# Altium footprint library Kondensator_DIP.PcbLib: 222 footprints (part 11 of 14)
Each footprint in its own frame and in the unit in brackets; x right, y up, seen from the top. Pads: shape width x height; smd on the part's side, far side on the other; paste and mask are expansions set on the pad; w line width, h text height; cw(c..) or ccw(c..) is an arc to the next point about the centre after c.
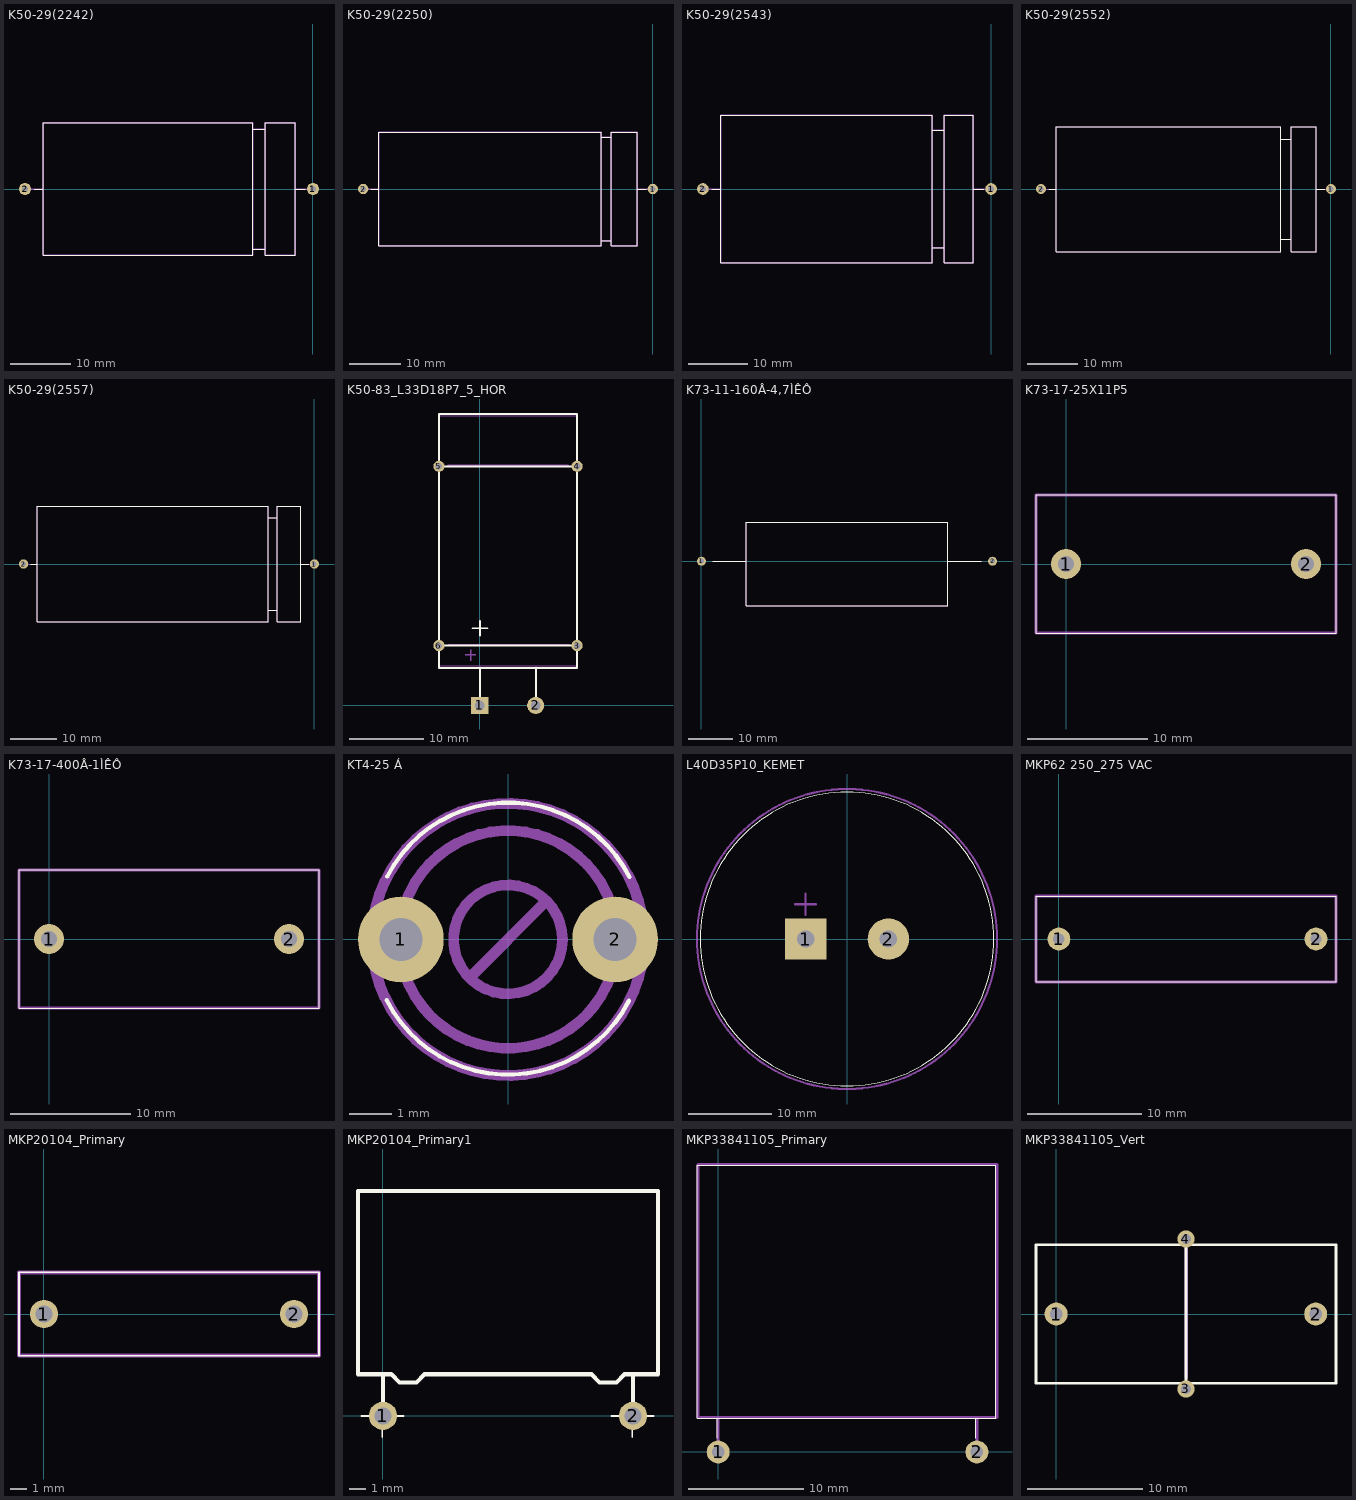
[diagram p10: the footprints below, top view; thin cyan lines are the x and y axes]

## K50-29(2242) [mm]
pads (2):
  round 2 hole 1: 1(0,0) 2(-48,0)
Top Overlay:
  lines w0.1: -46.5,0 -45,0 ; -10,-10 -8,-10 ; -10,10 -8,10 ; -3,0 -1.25,0 ; -45,-11 -10,-11 -10,11 -45,11 -45,-11 ; -8,-11 -3,-11 -3,11 -8,11 -8,-11
Mechanical 1:
  lines w0.25: -48,0 -45,0 ; -10,-10 -8,-10 ; -10,10 -8,10 ; 0,0 -3,0 ; -45,0 -45,11 -10,11 -10,-11 -45,-11 -45,0 ; -3,0 -3,11 -8,11 -8,-11 -3,-11 -3,0
  text "+" at -5.5,-0.75 h0.94

## K50-29(2250) [mm]
pads (2):
  round 2 hole 1: 1(0,0) 2(-56,0)
Top Overlay:
  lines w0.1: -54.5,0 -53,0 ; -10,-10 -8,-10 ; -10,10 -8,10 ; -3,0 -1.25,0 ; -53,-11 -10,-11 -10,11 -53,11 -53,-11 ; -8,-11 -3,-11 -3,11 -8,11 -8,-11
Mechanical 1:
  lines w0.25: -56,0 -53,0 ; -10,-10 -8,-10 ; -10,10 -8,10 ; 0,0 -3,0 ; -53,0 -53,11 -10,11 -10,-11 -53,-11 -53,0 ; -3,0 -3,11 -8,11 -8,-11 -3,-11 -3,0
  text "+" at -5.5,-0.75 h0.94

## K50-29(2543) [mm]
pads (2):
  round 2 hole 1: 1(0,0) 2(-49,0)
Top Overlay:
  lines w0.1: -47.5,0 -46,0 ; -10,-10 -8,-10 ; -10,10 -8,10 ; -3,0 -1.25,0 ; -46,-12.5 -10,-12.5 -10,12.5 -46,12.5 -46,-12.5 ; -8,-12.5 -8,12.5 -3,12.5 -3,-12.5 -8,-12.5
Mechanical 1:
  lines w0.25: -49,0 -46,0 ; -10,-10 -8,-10 ; -10,10 -8,10 ; 0,0 -3,0 ; -46,0 -46,12.5 -10,12.5 -10,-12.5 -46,-12.5 -46,0 ; -3,0 -3,12.5 -8,12.5 -8,-12.5 -3,-12.5 -3,0
  text "+" at -5.5,-0.75 h0.94

## K50-29(2552) [mm]
pads (2):
  round 2 hole 1: 1(0,0) 2(-58,0)
Top Overlay:
  lines w0.1: -56.5,0 -55,0 ; -10,-10 -8,-10 ; -10,10 -8,10 ; -3,0 -1.25,0 ; -55,-12.5 -10,-12.5 -10,12.5 -55,12.5 -55,-12.5 ; -8,-12.5 -3,-12.5 -3,12.5 -8,12.5 -8,-12.5
Mechanical 1:
  lines w0.25: -58,0 -55,0 ; -10,-10 -8,-10 ; -10,10 -8,10 ; 0,0 -3,0 ; -55,0 -55,12.5 -10,12.5 -10,-12.5 -55,-12.5 -55,0 ; -3,0 -3,12.5 -8,12.5 -8,-12.5 -3,-12.5 -3,0
  text "+" at -5.5,-0.75 h0.94

## K50-29(2557) [mm]
pads (2):
  round 2 hole 1: 1(0,0) 2(-63,0)
Top Overlay:
  lines w0.1: -61.5,0 -60,0 ; -10,-10 -8,-10 ; -10,10 -8,10 ; -3,0 -1.25,0 ; -60,-12.5 -10,-12.5 -10,12.5 -60,12.5 -60,-12.5 ; -8,-12.5 -3,-12.5 -3,12.5 -8,12.5 -8,-12.5
Mechanical 1:
  lines w0.25: -63,0 -60,0 ; -10,-10 -8,-10 ; -10,10 -8,10 ; 0,0 -3,0 ; -60,0 -60,12.5 -10,12.5 -10,-12.5 -60,-12.5 -60,0 ; -3,0 -3,12.5 -8,12.5 -8,-12.5 -3,-12.5 -3,0
  text "+" at -5.5,-0.75 h0.94

## K50-83_L33D18P7_5_HOR [mm]
pads (6):
  rect 2.3x2.3 hole 1.3: 1(-0.04,0)
  round 2.3 hole 1.3: 2(7.46,0)
  round 1.5 hole 0.9: 3(13,8) 4(13,32) 5(-5.5,32) 6(-5.5,8)
Top Overlay:
  lines w0.254: -5.5,8 13,8 ; -5.5,32 13,32 ; -1,10.33 1,10.33 ; 0,0 0,5 ; 0,9.33 0,11.33 ; 7.5,0 7.5,5 ; -5.5,5 13,5 13,39 -5.5,39 -5.5,5
Mechanical 1:
  lines w0.15: -5.46,6.78 -5.46,5.28 13.04,5.28 13.04,6.78 ; -5.46,9.28 -5.46,30.78 ; -5.46,33.28 -5.46,38.78 13.04,38.78 13.04,33.28 ; 0.04,1.78 0.04,5.28 ; 7.54,1.78 7.54,5.28 ; 13.04,9.28 13.04,30.78
  lines w0.2: -1.96,6.78 -0.56,6.78 ; -1.26,5.98 -1.26,7.48
  lines w0.3: -4.26,32.08 11.74,32.08 ; -4.16,8.08 11.84,8.08

## K73-11-160Â-4,7ÌÊÔ [mm]
pads (2):
  round 2 hole 1.1: 1(0,0) 2(65,0)
Top Overlay:
  lines w0.1: 2.5,0 10,0 ; 55,0 62.5,0 ; 10,-10 55,-10 55,8.75 10,8.75 10,-10
Mechanical 1:
  lines w0.25: 2.5,0 10,0 ; 48.254,-10 51.245,-10 ; 55,0 62.5,0 ; 10,-10 55,-10 55,8.75 10,8.75 10,-10

## K73-17-25X11P5 [mm]
pads (2):
  round 2.5 hole 1.3: 1(0,0) 2(20,0)
Top Overlay:
  lines w0.1: -2.5,-5.75 22.5,-5.75 22.5,5.75 -2.5,5.75 -2.5,-5.75
Mechanical 1:
  lines w0.25: -2.5,-5.75 22.5,-5.75 22.5,5.75 -2.5,5.75 -2.5,-5.75

## K73-17-400Â-1ÌÊÔ [mm]
pads (2):
  round 2.5 hole 1.3: 1(0,0) 2(20,0)
Top Overlay:
  lines w0.1: -2.5,-5.75 22.5,-5.75 22.5,5.75 -2.5,5.75 -2.5,-5.75
Mechanical 1:
  lines w0.25: -2.5,-5.75 22.5,-5.75 22.5,5.75 -2.5,5.75 -2.5,-5.75

## KT4-25 Á [mm]
pads (2):
  round 2 hole 1: 1(-2.5,0) 2(2.5,0)
Top Overlay:
  lines w0.1: -2.829,-1.422 ccw(c0,0.019) 2.824,-1.432 ; -2.819,1.467 cw(c0.005,0.016) 2.834,1.457
Mechanical 1:
  circle w0.254: c0,0 r3.175
  circle w0.25: c0,0 r2.54
  circle w0.25: c0,0 r1.27
  lines w0.25: -0.889,-0.889 0.889,0.889

## L40D35P10_KEMET [mm]
pads (2):
  rect 5x5 hole 2.1: 1(-5,0)
  round 5 hole 2.1: 2(5,0)
Top Overlay:
  circle w0.1: c0,0 r17.75
Mechanical 1:
  circle w0.25: c0,0 r18.125
  lines w0.254: -6.27,4.195 -3.73,4.195 ; -5,2.925 -5,5.465

## MKP62 250_275 VAC [mm]
pads (2):
  round 2 hole 1: 1(0,0) 2(22.5,0)
Top Overlay:
  lines w0.1: -2,-3.75 24.25,-3.75 24.25,3.75 -2,3.75 -2,-3.75
Mechanical 1:
  lines w0.25: -2,-3.75 24.25,-3.75 24.25,3.75 -2,3.75 -2,-3.75

## MKP20104_Primary [mm]
pads (2):
  round 1.7 hole 1: 1(0,0) 2(15,0)
Top Overlay:
  lines w0.1: -1.5,-2.5 16.5,-2.5 16.5,2.5 -1.5,2.5 -1.5,-2.5
Mechanical 1:
  lines w0.25: -1.5,-2.5 16.5,-2.5 16.5,2.5 -1.5,2.5 -1.5,-2.5

## MKP20104_Primary1 [mm]
pads (2):
  round 1.7 hole 1: 1(0,0) 2(15,0)
Top Overlay:
  lines w0.1: -1.31,0 1.23,0 ; -0.04,-1.27 -0.04,0 ; 13.69,0 16.23,0 ; 14.96,-1.27 14.96,0
  lines w0.25: 0,0 0,2.5 ; 15,0 15,2.5 ; -1.5,2.5 0.5,2.5 1,2 2,2 2.5,2.5 12.5,2.5 13,2 14,2 14.5,2.5 16.5,2.5 16.5,13.5 -1.5,13.5 -1.5,2.5

## MKP33841105_Primary [mm]
pads (2):
  round 2 hole 1.1: 1(0,0) 2(22.5,0)
Top Overlay:
  lines w0.1: -0.09,1.2 -0.09,2.95 ; 22.41,1.2 22.41,2.95 ; -1.84,2.95 24.16,2.95 24.16,24.95 -1.84,24.95 -1.84,2.95
Mechanical 1:
  lines w0.25: 0,0 0,3 ; 22.5,0 22.5,3 ; -1.75,3 24.25,3 24.25,25 -1.75,25 -1.75,3

## MKP33841105_Vert [mm]
pads (4):
  round 2 hole 1.1: 1(0,0) 2(22.5,0)
  round 1.5 hole 0.9: 3(11.25,-6.5) 4(11.25,6.5)
Top Overlay:
  lines w0.25: 11.25,-6.5 11.25,6.5 ; -1.75,-6 24.25,-6 24.25,6 -1.75,6 -1.75,-6
Mechanical 1:
  lines w0.15: 10.36,-6 -1.74,-6 -1.74,6 10.36,6 ; 12.16,-6 24.26,-6 24.26,6 12.16,6
  lines w0.3: 11.26,-5.5 11.26,5.6